# Altium footprint library PcbLib1.PcbLib: 27 footprints (part 1 of 2)
Each footprint in its own frame and in the unit in brackets; x right, y up, seen from the top. Pads: shape width x height; smd on the part's side, far side on the other; paste and mask are expansions set on the pad; w line width, h text height; cw(c..) or ccw(c..) is an arc to the next point about the centre after c.
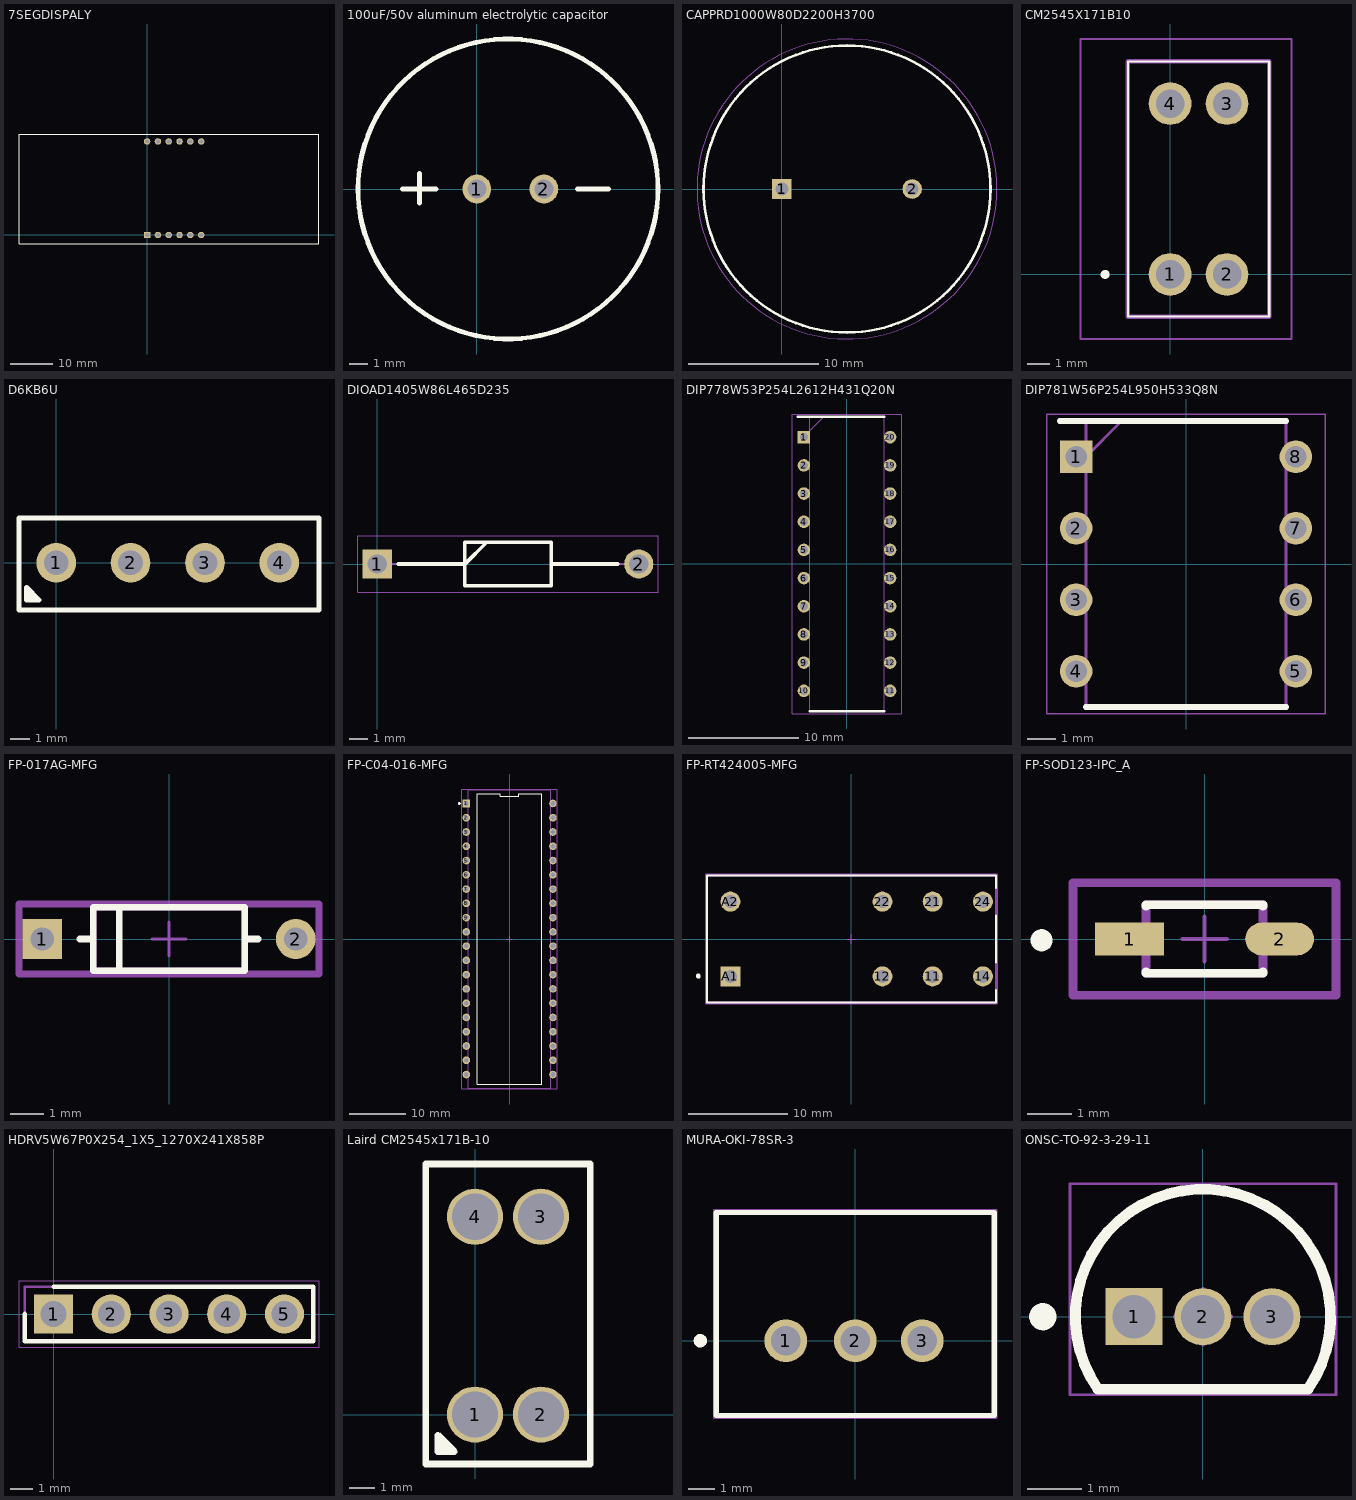
[diagram p0: the footprints below, top view; thin cyan lines are the x and y axes]

## 7SEGDISPALY [mil]
pads (12):
  rect 60x60 hole 40: 1(0,0)
  round 60 hole 40: 2(100,0) 3(200,0) 4(300,0) 5(400,0) 6(500,0) 7(500,865) 8(400,865) 9(300,865) 10(200,865) 11(100,865) 12(0,865)
Top Overlay:
  lines w10: -1185,-80 -1185,931 1590,931 1590,-80 -1185,-80

## 100uF/50v aluminum electrolytic capacitor [mil]
pads (2):
  round 60 hole 40: 1(0,0) 2(140,0)
Top Overlay:
  circle w10: c65,0 r313.05
  lines w10: -155,0 -85,0 ; -119.73,-29.73 -119.73,32.59 ; 210,0 275,0

## CAPPRD1000W80D2200H3700 [mm]
pads (2):
  rect 1.5x1.5 hole 1: 1(0,0)
  round 1.5 hole 1: 2(10,0)
Top Overlay:
  circle w0.2: c5,0 r11
Mechanical 13:
  circle w0.1: c5,0 r11
Mechanical 15:
  circle w0.05: c5,0 r11.5
3D body "ESK478M050AQ3AA.stp": height 38.01, standoff -19, extent -6.245,-11.25 16.245,11.25

## CM2545X171B10 [mil]
pads (4):
  round 75 hole 50: 1(0,0) 2(100,0) 3(100,300) 4(0,300)
Top Overlay:
  lines w3.94: -74.02,-74.02 -74.02,374.02 174.02,374.02 174.02,-74.02 -74.02,-74.02
  lines w7.87: -118.11,0 cw(c-114.17,0) -110.24,0 cw(c-114.17,0) -118.11,0
Mechanical 13:
  lines w7.87: -74.02,-74.02 -74.02,374.02 174.02,374.02 174.02,-74.02 -74.02,-74.02
Mechanical 15:
  lines w3.94: -157.48,-113.39 -157.48,413.39 213.39,413.39 213.39,-113.39 -157.48,-113.39
3D body "CM2545X171B-10.stp": height 377.95, standoff -196.85, extent -74.02,-74.02 174.02,374.02

## D6KB6U [mil] "bridge rectifier"
pads (4):
  round 80 / inner round 60 / far side round 80 hole 50: 1(0,0) 2(150,0) 3(300,0) 4(450,0)
Top Overlay:
  lines w10: -60,-62.5 -47.5,-62.5 -47.5,-75 -47.5,-68.75 -53.75,-68.75 ; -75,-95 -75,90 530,90 530,-95 -75,-95 ; -60,-75 -35,-75 -60,-50 -60,-75

## DIOAD1405W86L465D235 [mm]
pads (2):
  rect 1.575x1.575 hole 1.05: 1(0,0)
  round 1.575 hole 1.05: 2(14.1,0)
Top Overlay:
  lines w0.2: 1.138,0 4.725,0 5.9,1.175 ; 9.375,0 12.962,0 ; 4.725,-1.175 9.375,-1.175 9.375,1.175 4.725,1.175 4.725,-1.175
Mechanical 13:
  lines w0.1: 0,0 4.725,0 5.9,1.175 ; 9.375,0 14.1,0 ; 4.725,-1.175 9.375,-1.175 9.375,1.175 4.725,1.175 4.725,-1.175
Mechanical 15:
  lines w0.05: -1.038,-1.525 15.137,-1.525 15.137,1.525 -1.038,1.525 -1.038,-1.525
3D body "1N4007-E3_73.stp": height 2.7, standoff -2.7, extent -0.43,-1.34 14.48,1.34

## DIP778W53P254L2612H431Q20N [mm]
pads (20):
  rect 1.13x1.13 hole 0.73: 1(-3.892,11.43)
  round 1.13 hole 0.73: 2(-3.892,8.89) 3(-3.892,6.35) 4(-3.892,3.81) 5(-3.892,1.27) 6(-3.892,-1.27) 7(-3.892,-3.81) 8(-3.892,-6.35) 9(-3.892,-8.89) 10(-3.892,-11.43) 11(3.892,-11.43) 12(3.892,-8.89) 13(3.892,-6.35) 14(3.892,-3.81) 15(3.892,-1.27) 16(3.892,1.27) 17(3.892,3.81) 18(3.892,6.35) 19(3.892,8.89) 20(3.892,11.43)
Top Overlay:
  lines w0.2: -4.458,13.27 3.375,13.27 ; -3.375,-13.27 3.375,-13.27
Mechanical 13:
  lines w0.1: -3.375,12 -2.105,13.27 ; -3.375,-13.27 -3.375,13.27 3.375,13.27 3.375,-13.27 -3.375,-13.27
Mechanical 15:
  lines w0.05: -4.94,-13.52 -4.94,13.52 4.94,13.52 4.94,-13.52 -4.94,-13.52
3D body "TM1637.stp": height 4.31, standoff -3.5, extent -4.025,-13.06 4.025,13.06

## DIP781W56P254L950H533Q8N [mm]
pads (8):
  rect 1.158x1.158 hole 0.758: 1(-3.905,3.81)
  round 1.158 hole 0.758: 2(-3.905,1.27) 3(-3.905,-1.27) 4(-3.905,-3.81) 5(3.905,-3.81) 6(3.905,-1.27) 7(3.905,1.27) 8(3.905,3.81)
Top Overlay:
  lines w0.2: -4.484,5.08 3.556,5.08 ; -3.556,-5.08 3.556,-5.08
Mechanical 13:
  lines w0.1: -3.556,3.81 -2.286,5.08 ; -3.556,-5.08 -3.556,5.08 3.556,5.08 3.556,-5.08 -3.556,-5.08
Mechanical 15:
  lines w0.05: -4.956,-5.33 -4.956,5.33 4.956,5.33 4.956,-5.33 -4.956,-5.33
3D body "MCP6002-E_P.stp": height 5.33, standoff -3.5, extent -4.045,-4.75 4.045,4.75

## FP-017AG-MFG [mm]
pads (2):
  rect 1.2x1.2 hole 0.7 paste-1000 mask+0: 1(-3.813,0)
  round 1.2 hole 0.7 paste-1000 mask+0: 2(3.813,0)
Top Overlay:
  lines w0.2: -2.68,0 -2.28,0 ; -1.5,-0.855 -1.5,0.855 ; 2.28,0 2.68,0 ; -2.28,-0.955 -2.28,0.955 2.28,0.955 2.28,-0.955 -2.28,-0.955
Top 3D Body:
  lines w0.2: -2.28,-0.955 -2.28,0.955 2.28,0.955 2.28,-0.955 -2.28,-0.955
Top Courtyard:
  lines w0.2: -4.513,-1.055 -4.513,1.055 4.513,1.055 4.513,-1.055 -4.513,-1.055
Top Assembly:
  lines w0.2: -4.513,-1.055 -4.513,1.055 4.513,1.055 4.513,-1.055 -4.513,-1.055
  text ".Designator" at 0,0.188 h1
Top Component Center:
  lines w0.1: -0.5,0 0.5,0 ; 0,-0.5 0,0.5
3D body "Diode_ON_Semiconductor_1N914B_eec.STEP": height 0.25, standoff 0, extent -4.513,-1.055 4.513,1.055

## FP-C04-016-MFG [mm]
pads (40):
  rect 1.35x1.35 hole 0.85 paste-1000 mask+0: 1(-7.715,24.13)
  round 1.35 hole 0.85 paste-1000 mask+0: 2(-7.715,21.59) 3(-7.715,19.05) 4(-7.715,16.51) 5(-7.715,13.97) 6(-7.715,11.43) 7(-7.715,8.89) 8(-7.715,6.35) 9(-7.715,3.81) 10(-7.715,1.27) 11(-7.715,-1.27) 12(-7.715,-3.81) 13(-7.715,-6.35) 14(-7.715,-8.89) 15(-7.715,-11.43) 16(-7.715,-13.97) 17(-7.715,-16.51) 18(-7.715,-19.05) 19(-7.715,-21.59) 20(-7.715,-24.13) 21(7.715,-24.13) 22(7.715,-21.59) 23(7.715,-19.05) 24(7.715,-16.51) 25(7.715,-13.97) 26(7.715,-11.43) 27(7.715,-8.89) 28(7.715,-6.35) 29(7.715,-3.81) 30(7.715,-1.27) 31(7.715,1.27) 32(7.715,3.81) 33(7.715,6.35) 34(7.715,8.89) 35(7.715,11.43) 36(7.715,13.97) 37(7.715,16.51) 38(7.715,19.05) 39(7.715,21.59) 40(7.715,24.13)
Top Overlay:
  circle w0.25: c-8.94,24.13 r0.125
  lines w0.2: -5.763,-25.876 -5.763,25.876 -1.646,25.876 -1.646,25.376 1.646,25.376 1.646,25.876 5.763,25.876 5.763,-25.876 -5.763,-25.876
Top 3D Body:
  lines w0.2: -7.366,-26.607 7.366,-26.607 7.366,26.607 -7.366,26.607 -7.366,-26.607
Top Courtyard:
  lines w0.2: -8.49,-26.706 8.49,-26.706 8.49,26.706 -8.49,26.706 -8.49,-26.706
Top Assembly:
  lines w0.2: -8.49,-26.706 8.49,-26.706 8.49,26.706 -8.49,26.706 -8.49,-26.706
  text ".Designator" at 0,0.188 h1
Top Component Center:
  lines w0.1: -0.5,0 0.5,0 ; 0,-0.5 0,0.5
3D body "IC_Microchip_Technology_PIC18LF47K40-I-P_eec.STEP": height 0.25, standoff 0, extent -8.49,-26.706 8.49,26.706

## FP-RT424005-MFG [mm]
pads (8):
  round 2 hole 1.3 paste-1000 mask+0: 11(8.15,-3.75) 12(3.11,-3.75) 14(13.19,-3.75) 21(8.15,3.75) 22(3.11,3.75) 24(13.19,3.75) A2(-12.15,3.75)
  rect 2x2 hole 1.3 paste-1000 mask+0: A1(-12.15,-3.75)
Top Overlay:
  circle w0.25: c-15.375,-3.725 r0.125
  lines w0.2: 14.5,-5.125 14.5,-6.35 -14.5,-6.35 -14.5,6.35 14.5,6.35 14.5,5.125 ; 14.5,-2.375 14.5,2.375
Top 3D Body:
  lines w0.2: -14.5,-6.35 14.5,-6.35 14.5,6.35 -14.5,6.35 -14.5,-6.35
Top Courtyard:
  lines w0.2: -14.6,-6.45 14.6,-6.45 14.6,6.45 -14.6,6.45 -14.6,-6.45
Top Assembly:
  lines w0.2: -14.6,-6.45 14.6,-6.45 14.6,6.45 -14.6,6.45 -14.6,-6.45
  text ".Designator" at 0,0.188 h1
Top Component Center:
  lines w0.1: -0.5,0 0.5,0 ; 0,-0.5 0,0.5
3D body "Relay_TE_Connectivity_RT424005_eec.STEP": height 0.25, standoff 0, extent -14.6,-6.45 14.6,6.45

## FP-SOD123-IPC_A [mil]
pads (2):
  rect 61.32x29.23 smd paste+0 mask+0: 1(-66.94,0)
  rrect100% 61.32x29.23 smd paste+0 mask+0: 2(66.94,0)
Top Overlay:
  circle w9.84: c-145.45,-1.13 r4.92
  lines w7.87: -52.17,-29.38 -52.17,-30.51 52.17,-30.51 52.17,-29.38 ; -52.17,29.38 -52.17,30.51 52.17,30.51 52.17,29.38
Top 3D Body:
  lines w7.87: -52.17,-30.51 -52.17,30.51 52.17,30.51 52.17,-30.51 -52.17,-30.51
Top Courtyard:
  lines w7.87: -117.29,-50.2 -117.29,50.2 117.29,50.2 117.29,-50.2 -117.29,-50.2
Top Assembly:
  lines w7.87: -117.29,-50.2 -117.29,50.2 117.29,50.2 117.29,-50.2 -117.29,-50.2
  text ".Designator" at 0,7.39 h39.37
Top Component Center:
  lines w3.94: -19.68,0 19.68,0 ; 0,-19.68 0,19.68
3D body "Diode_Diodes_Incorporated_BZT52C5V1-7-F_eec.STEP": height 10, standoff 0, extent -117.29,-50.2 117.29,50.2

## HDRV5W67P0X254_1X5_1270X241X858P [mm]
pads (5):
  rect 1.725x1.725 hole 1.15: 1(0,0)
  round 1.725 hole 1.15: 2(2.54,0) 3(5.08,0) 4(7.62,0) 5(10.16,0)
Top Overlay:
  lines w0.2: -1.27,0 -1.27,-1.205 11.43,-1.205 11.43,1.205 0,1.205
Mechanical 13:
  lines w0.1: -1.27,-1.205 -1.27,1.205 11.43,1.205 11.43,-1.205 -1.27,-1.205
Mechanical 15:
  lines w0.05: -1.52,-1.455 -1.52,1.455 11.68,1.455 11.68,-1.455 -1.52,-1.455
3D body "68000-105HTLF.stp": height 8.58, standoff -2.66, extent -1.27,-1.205 11.43,1.205

## Laird CM2545x171B-10 [mil] "spoel 2"
pads (4):
  round 85 hole 70: 1(0,0) 2(100,0) 3(100,300) 4(0,300)
Top Overlay:
  lines w10: -50,-50 -43.75,-43.75 -43.75,-56.25 -56.25,-43.75 -56.25,-31.25 ; -56.25,-31.25 -56.25,-56.25 -31.25,-56.25 -56.25,-31.25 ; -75,-75 -75,380 175,380 175,-75 -75,-75

## MURA-OKI-78SR-3 [mm] "THMT, 3-Leads, Body 10.4x7.6mm"
height 16.5
pads (3):
  round 1.6 hole 1.1: 1(-2.6,0) 2(0,0) 3(2.5,0)
Top Overlay:
  circle w0.25: c-5.8,0 r0.125
  lines w0.2: -5.2,-2.8 5.2,-2.8 5.2,4.8 -5.2,4.8 -5.2,-2.8
Mechanical 13:
  lines w0.1: -5.2,-2.8 -5.2,4.8 5.2,4.8 5.2,-2.8 -5.2,-2.8
Mechanical 15:
  lines w0.05: -5.3,-2.9 -5.3,4.9 5.3,4.9 5.3,-2.9 -5.3,-2.9
  lines w0.1: -0.5,0 0.5,0 ; 0,-0.5 0,0.5
3D body: height 16.5, standoff 0, extent -5.2,-2.8 5.2,4.8

## ONSC-TO-92-3-29-11 [mm] "TO, 3-Leads, Body Dia 4.7mm, Pitch 1.27mm"
height 7.87
pads (3):
  rect 1.05x1.05 hole 0.8: 1(-1.27,0)
  round 1.05 hole 0.8: 2(0,0) 3(1.27,0)
Top Overlay:
  circle w0.25: c-2.95,0 r0.125
  lines w0.2: -1.934,-1.335 cw(c0,0) 1.934,-1.335 -1.934,-1.335
Mechanical 13:
  lines w0.1: -1.934,-1.335 cw(c0,0) 1.934,-1.335 -1.934,-1.335
Mechanical 15:
  lines w0.05: -2.45,-1.435 2.45,-1.435 2.45,2.45 -2.45,2.45 -2.45,-1.435
  lines w0.1: -0.5,0 0.5,0 ; 0,-0.5 0,0.5
3D body: height 7.87, standoff 2.54, extent -2.349,-1.334 2.357,2.359